# Altium footprint library 28PIN FLAT PACK.PcbLib: 1 footprints
Each footprint in its own frame and in the unit in brackets; x right, y up, seen from the top. Pads: shape width x height; smd on the part's side, far side on the other; paste and mask are expansions set on the pad; w line width, h text height; cw(c..) or ccw(c..) is an arc to the next point about the centre after c.
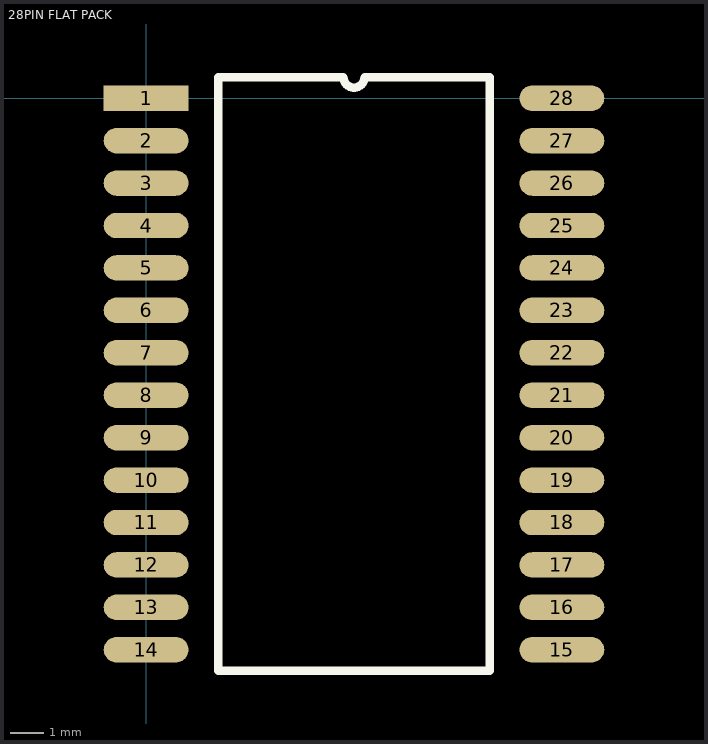
[diagram p0: the footprint, top view; thin cyan lines are the x and y axes]

## 28PIN FLAT PACK [mil]
pads (28):
  rect 100x30 smd: 1(0,0)
  oval 100x30 smd: 2(0,-50) 3(0,-100) 4(0,-150) 5(0,-200) 6(0,-250) 7(0,-300) 8(0,-350) 9(0,-400) 10(0,-450) 11(0,-500) 12(0,-550) 13(0,-600) 14(0,-650) 15(490,-650) 16(490,-600) 17(490,-550) 18(490,-500) 19(490,-450) 20(490,-400) 21(490,-350) 22(490,-300) 23(490,-250) 24(490,-200) 25(490,-150) 26(490,-100) 27(490,-50) 28(490,0)
Top Overlay:
  lines w10: 85,-675 405,-675 405,25 257.5,25 cw(c245,25) 232.5,25 85,25 85,-675
3D body: height 115, standoff 0, extent 50,-675 440,25